# Altium footprint library mps_mp6519.PcbLib: 1 footprints
Each footprint in its own frame and in the unit in brackets; x right, y up, seen from the top. Pads: shape width x height; smd on the part's side, far side on the other; paste and mask are expansions set on the pad; w line width, h text height; cw(c..) or ccw(c..) is an arc to the next point about the centre after c.
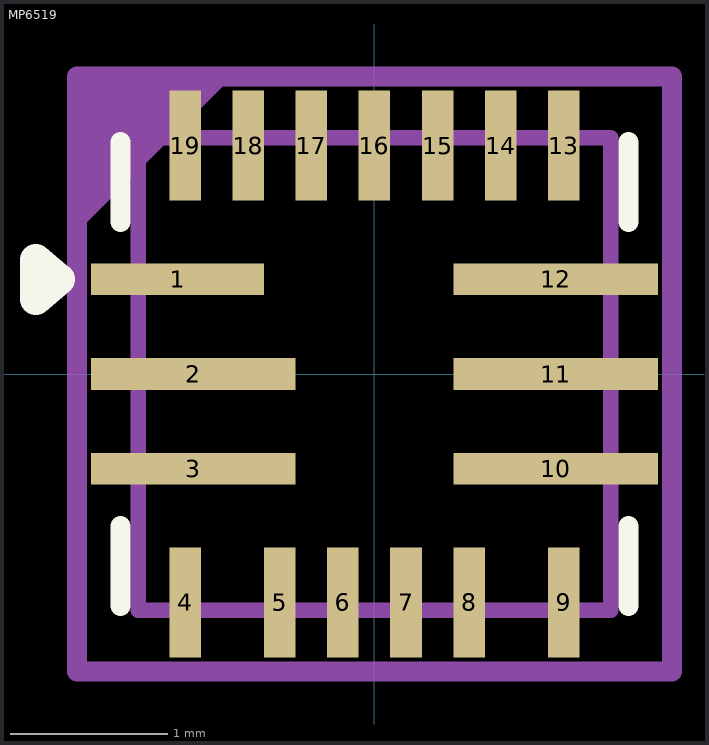
[diagram p0: the footprint, top view; thin cyan lines are the x and y axes]

## MP6519 [mm]
height 1
pads (19):
  rect 1.1x0.2 smd: 1(-1.25,0.6)
  rect 1.3x0.2 smd: 2(-1.15,0) 3(-1.15,-0.6) 10(1.15,-0.6) 11(1.15,0) 12(1.15,0.6)
  rect 0.2x0.7 smd: 4(-1.2,-1.45) 5(-0.6,-1.45) 6(-0.2,-1.45) 7(0.2,-1.45) 8(0.6,-1.45) 9(1.2,-1.45) 13(1.2,1.45) 14(0.8,1.45) 15(0.4,1.45) 16(0,1.45) 17(-0.4,1.45) 18(-0.8,1.45) 19(-1.2,1.45)
Top Overlay:
  lines w0.127: -1.613,-1.473 -1.613,-0.965 ; -1.613,0.965 -1.613,1.473 ; 1.613,-1.473 1.613,-0.965 ; 1.613,0.965 1.613,1.473
  lines w0.2: -2.15,0.475 -2.15,0.725 -2,0.6 -2.15,0.475
Top 3D Body (Mech13):
  lines w0.1: -1.5,-1.5 -1.5,1.5 1.5,1.5 1.5,-1.5 -1.5,-1.5
Top Courtyard:
  region: -1.89,1.89 -0.9,1.89 -1.89,0.9
  lines w0.127: -1.89,-1.89 -1.89,1.89 1.89,1.89 1.89,-1.89 -1.89,-1.89
Top Designator:
  text ".Designator" at -1.092,-0.178 h0.51
3D body: height 1, standoff 0, extent -1.5,-1.5 1.5,1.5